# Altium schematic symbol library TSOP75338TR.Schlib: 1 symbol
Pins are listed as number, name and electrical type; pins without a type are passive.

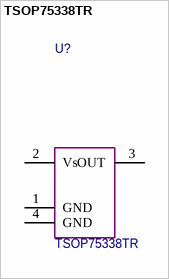
[diagram p0: symbol TSOP75338TR]

## TSOP75338TR
designator U?
pins: 1 GND, 2 Vs, 3 OUT, 4 GND